# Altium footprint library 0430450427.PcbLib: 1 footprints
Each footprint in its own frame and in the unit in brackets; x right, y up, seen from the top. Pads: shape width x height; smd on the part's side, far side on the other; paste and mask are expansions set on the pad; w line width, h text height; cw(c..) or ccw(c..) is an arc to the next point about the centre after c.
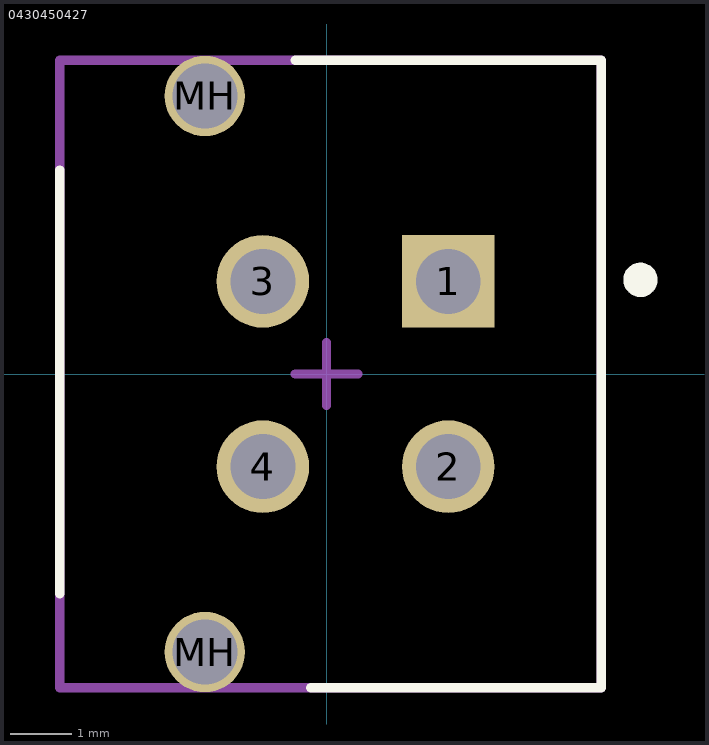
[diagram p0: the footprint, top view; thin cyan lines are the x and y axes]

## 0430450427 [mm]
pads (6):
  rect 1.5x1.5 hole 1.05 mask+0.051: 1(1.97,1.5)
  round 1.5 hole 1.05 mask+0.051: 2(1.97,-1.5) 3(-1.03,1.5) 4(-1.03,-1.5)
  round 1.3 hole 1.05 mask+0: MH(-1.97,-4.5) MH(-1.97,4.5)
Top Overlay:
  circle w0.3: c5.08,1.524 r0.127
  lines w0.15: -4.318,-3.556 -4.318,3.302 ; -0.508,5.08 4.445,5.08 4.445,-5.08 -0.254,-5.08
Mechanical 13:
  lines w0.15: -4.318,-5.08 -4.318,5.08 4.445,5.08 4.445,-5.08 -4.318,-5.08
Mechanical 15:
  lines w0.15: -0.508,0 0,0 ; 0,0 0,-0.508 0,0 ; 0,0 0.508,0 0,0 ; 0,0 0,0.508 0,0
3D body "430450427.stp": height 9.92, standoff -3.17, extent -4.325,-5.075 4.445,5.075